# Altium integrated library Panasonic Relays PhotoMOS.IntLib: 50 symbols (part 1 of 2)
Pins are listed as number, name and electrical type; pins without a type are passive.

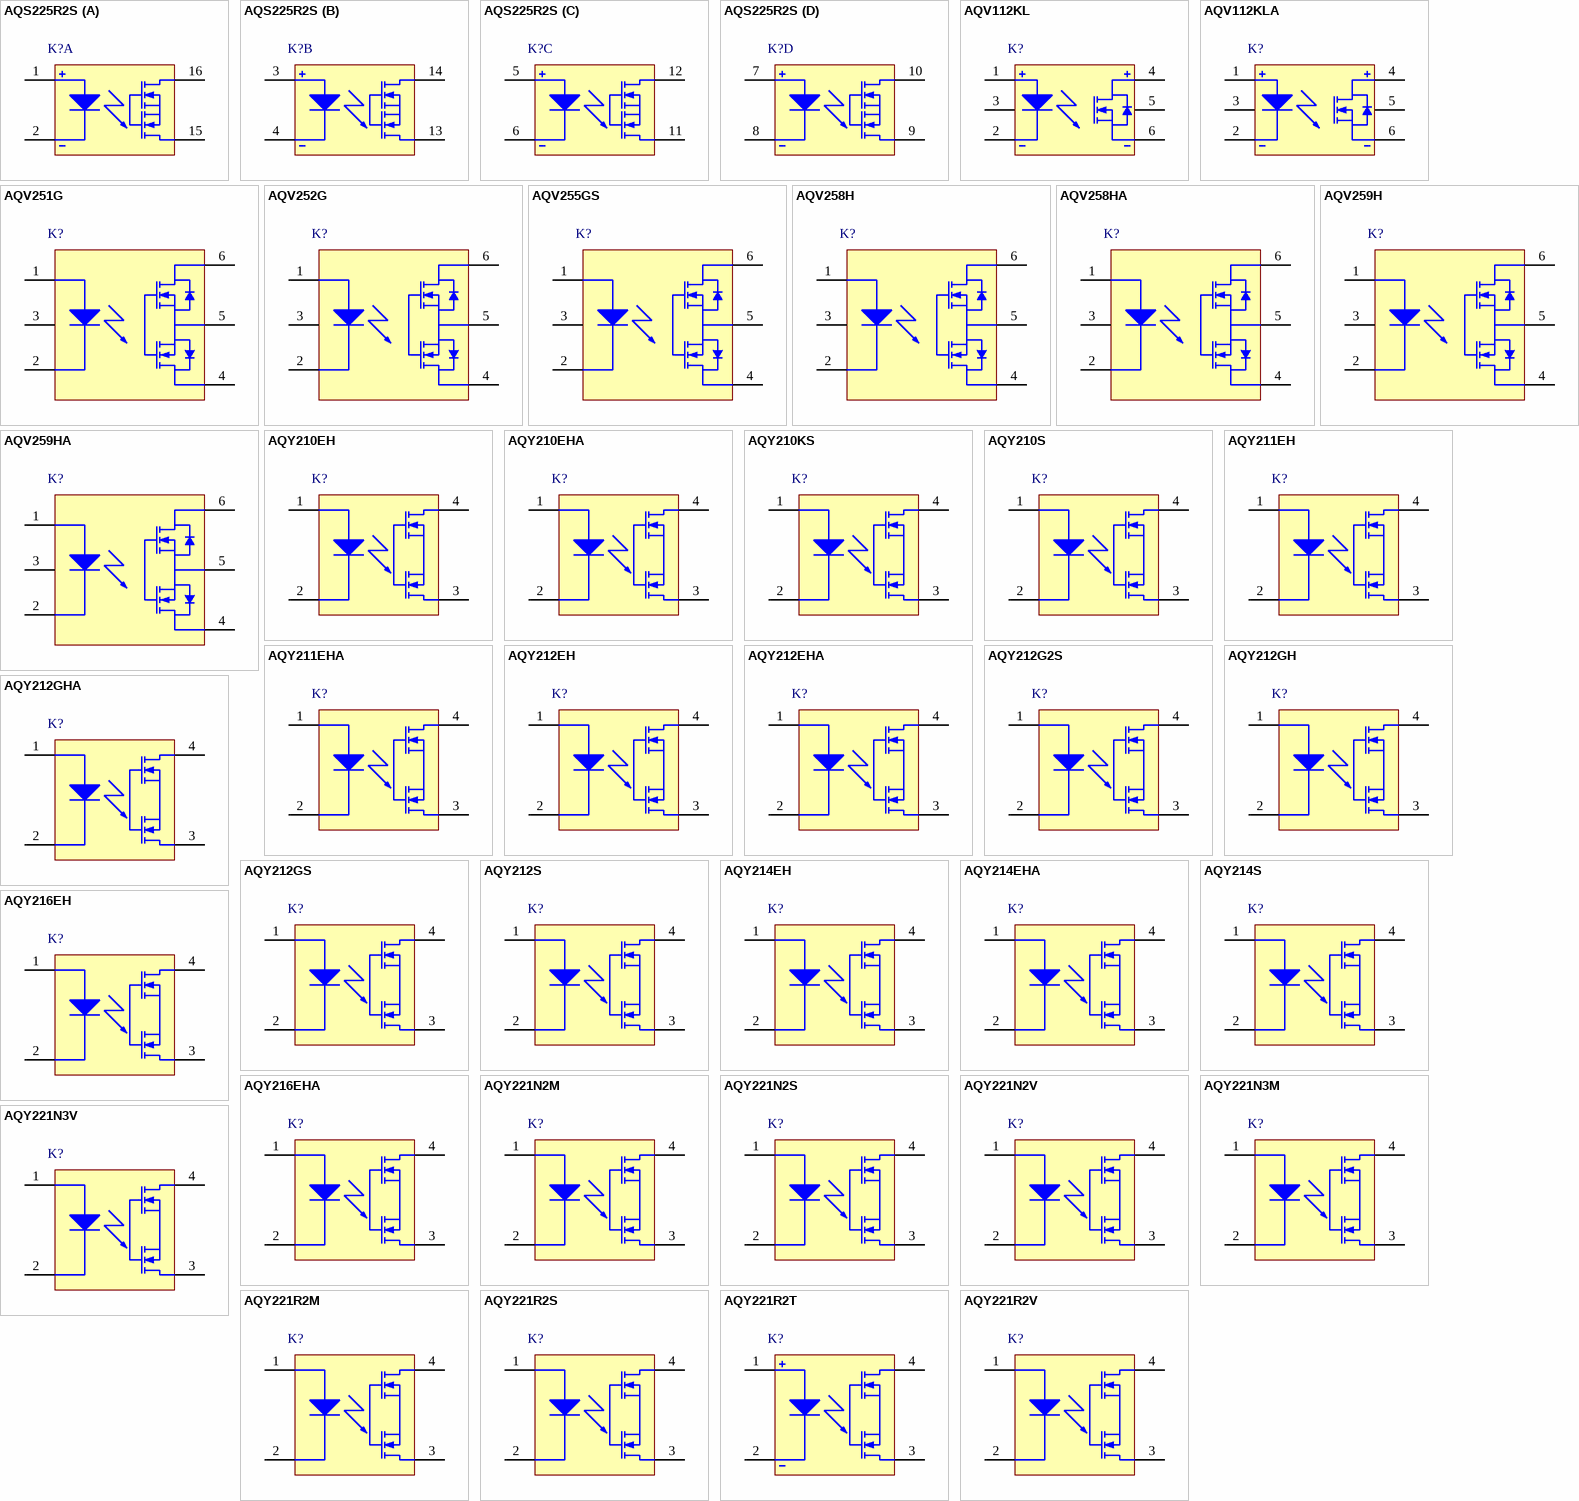
[diagram p0: symbols AQS225R2S to AQY221R2V]

## AQS225R2S
designator K?
PhotoMOS RF SOP 4 Form A CxR, 80 V Load Voltage, 0.07 A Continuous Load Current, -40 to 85 degC, 16-Pin SOP, Tube, RoHS; Manufacturer: Panasonic; PartNumber: AQS225R2S; Continuous Load Current: 0.07 A; Load Voltage: 80 V; On Resistance (Typ): 10.5 Ohm; Pb-Free: True; DatasheetVersion: 201404-T; PackageVersion: ASCTB67E, 04/2014; PackageReference: SOP16; PackageDescription: 16-Pin Small Outline Package, Body 10.37 x 4.4 mm, Pitch 1.27 mm; Supplier 1: Mouser; Supplier Part Number 1: 769-AQS225R2S; Supplier 2: Digi-Key; Supplier Part Number 2: 255-2668-ND; Packing: Tube; RoHS: True; Series: PhotoMOS RF SOP 4 Form A CxR; Mounting Technology: Surface Mount; ComponentLink1Description: Manufacturer URL; ComponentLink1URL: http://www3.panasonic.biz/ac/ae/index.jsp; ComponentLink2Description: Datasheet; ComponentLink2URL: http://www3.panasonic.biz/ac/e_download/control/relay/photomos/catalog/semi_eng_rf4a_aqs22_s.pdf?f_cd=301562; ComponentLink3Description: Package Specification; ComponentLink3URL: http://www3.panasonic.biz/ac/e_download/control/relay/photomos/catalog/semi_eng_dimensions.pdf?f_cd=401560
footprint PNSC-SOP16_V (SOP, 16-Leads, Body 10.37x4.4mm, Pitch 1.27mm)
part A pins: 1 +, 2 -, 15, 16
part B pins: 3 +, 4 -, 13, 14
part C pins: 5 +, 6 -, 11, 12
part D pins: 7 +, 8 -, 9, 10

## AQV112KL
designator K?
PhotoMOS GU 1 Form A Short Circuit Protection, 60 V Load Voltage, 0.5 A Continuous Load Current, -40 to 85 degC, 6-Pin DIP, Tube, RoHS; Manufacturer: Panasonic; PartNumber: AQV112KL; Continuous Load Current: 0.5 A; Load Voltage: 60 V; On Resistance (Typ): 0.55 Ohm; Pb-Free: True; DatasheetVersion: 201404-T; PackageVersion: ASCTB67E, 04/2014; PackageReference: DIP6; PackageDescription: 6-Pin Through Hole Terminal Package, Body 8.8 x 6.4 mm, Pitch 2.54 mm; Supplier 1: Mouser; Supplier Part Number 1: 769-AQV112KL; Supplier 2: Digi-Key; Supplier Part Number 2: AQV112KL-ND; Packing: Tube; RoHS: True; Series: PhotoMOS GU 1 Form A Short Circuit Protection; Mounting Technology: Through Hole; ComponentLink1Description: Manufacturer URL; ComponentLink1URL: http://www3.panasonic.biz/ac/ae/index.jsp; ComponentLink2Description: Datasheet; ComponentLink2URL: http://www3.panasonic.biz/ac/e_download/control/relay/photomos/catalog/semi_eng_gu1a_aqv11_kl.pdf?f_cd=301052; ComponentLink3Description: Package Specification; ComponentLink3URL: http://www3.panasonic.biz/ac/e_download/control/relay/photomos/catalog/semi_eng_dimensions.pdf?f_cd=401560
footprint PNSC-DIP6_V (DIP, 6-Leads, Body 6.45x8.85 mm, Pitch2.54 mm)
pins: 1 +, 2 -, 3, 4 +, 5, 6 -

## AQV112KLA
designator K?
PhotoMOS GU 1 Form A Short Circuit Protection, 60 V Load Voltage, 0.5 A Continuous Load Current, -40 to 85 degC, 6-Pin DIP(SMT), Tube, RoHS; Manufacturer: Panasonic; PartNumber: AQV112KLA; Continuous Load Current: 0.5 A; Load Voltage: 60 V; On Resistance (Typ): 0.55 Ohm; Pb-Free: True; DatasheetVersion: 201404-T; PackageVersion: ASCTB67E, 04/2014; PackageReference: DIP6(SMT); PackageDescription: 6-Pin Surface Mount Terminal Package, Body 8.8 x 6.4 mm, Pitch 2.54 mm; Supplier 1: Mouser; Supplier Part Number 1: 769-AQV112KLA; Supplier 2: Digi-Key; Supplier Part Number 2: AQV112KLA-ND; Packing: Tube; RoHS: True; Series: PhotoMOS GU 1 Form A Short Circuit Protection; Mounting Technology: Surface Mount; ComponentLink1Description: Manufacturer URL; ComponentLink1URL: http://www3.panasonic.biz/ac/ae/index.jsp; ComponentLink2Description: Datasheet; ComponentLink2URL: http://www3.panasonic.biz/ac/e_download/control/relay/photomos/catalog/semi_eng_gu1a_aqv11_kl.pdf?f_cd=301052; ComponentLink3Description: Package Specification; ComponentLink3URL: http://www3.panasonic.biz/ac/e_download/control/relay/photomos/catalog/semi_eng_dimensions.pdf?f_cd=401560
footprint PNSC-DIP6(SMT)_V (DIP(SMT), 6-Leads, Body 8.8x6.4mm, Pitch 2.54mm)
pins: 1 +, 2 -, 3, 4 +, 5, 6 -

## AQV251G
designator K?
PhotoMOS HE 1 Form A High Capacity, 30 V Load Voltage, 3.5 A Continuous Load Current, -40 to 85 degC, 6-Pin DIP, Tube, RoHS; Manufacturer: Panasonic; PartNumber: AQV251G; Continuous Load Current: 3.5 A; Load Voltage: 30 V; On Resistance (Typ): 0.035 Ohm; Pb-Free: True; DatasheetVersion: 201404-T; PackageVersion: ASCTB67E, 04/2014; PackageReference: DIP6; PackageDescription: 6-Pin Through Hole Terminal Package, Body 8.8 x 6.4 mm, Pitch 2.54 mm; Supplier 1: Digi-Key; Supplier Part Number 1: 255-4244-5-ND; Packing: Tube; RoHS: True; Series: PhotoMOS HE 1 Form A High Capacity; Mounting Technology: Through Hole; ComponentLink1Description: Manufacturer URL; ComponentLink1URL: http://www3.panasonic.biz/ac/ae/index.jsp; ComponentLink2Description: Datasheet; ComponentLink2URL: http://www3.panasonic.biz/ac/e_download/control/relay/photomos/catalog/semi_eng_he1a_aqv25_g.pdf?f_cd=301252; ComponentLink3Description: Package Specification; ComponentLink3URL: http://www3.panasonic.biz/ac/e_download/control/relay/photomos/catalog/semi_eng_dimensions.pdf?f_cd=401560
footprint PNSC-DIP6_V (DIP, 6-Leads, Body 6.45x8.85 mm, Pitch2.54 mm)
pins: 1, 2, 3, 4, 5, 6

## AQV252G
designator K?
PhotoMOS HE 1 Form A High Capacity, 60 V Load Voltage, 2.5 A Continuous Load Current, -40 to 85 degC, 6-Pin DIP, Tube, RoHS; Manufacturer: Panasonic; PartNumber: AQV252G; Continuous Load Current: 2.5 A; Load Voltage: 60 V; On Resistance (Typ): 0.08 Ohm; Pb-Free: True; DatasheetVersion: 201404-T; PackageVersion: ASCTB67E, 04/2014; PackageReference: DIP6; PackageDescription: 6-Pin Through Hole Terminal Package, Body 8.8 x 6.4 mm, Pitch 2.54 mm; Supplier 1: Mouser; Supplier Part Number 1: 769-AQV252G; Supplier 2: Digi-Key; Supplier Part Number 2: 255-1791-5-ND; Packing: Tube; RoHS: True; Series: PhotoMOS HE 1 Form A High Capacity; Mounting Technology: Through Hole; ComponentLink1Description: Manufacturer URL; ComponentLink1URL: http://www3.panasonic.biz/ac/ae/index.jsp; ComponentLink2Description: Datasheet; ComponentLink2URL: http://www3.panasonic.biz/ac/e_download/control/relay/photomos/catalog/semi_eng_he1a_aqv25_g.pdf?f_cd=301252; ComponentLink3Description: Package Specification; ComponentLink3URL: http://www3.panasonic.biz/ac/e_download/control/relay/photomos/catalog/semi_eng_dimensions.pdf?f_cd=401560
footprint PNSC-DIP6_V (DIP, 6-Leads, Body 6.45x8.85 mm, Pitch2.54 mm)
pins: 1, 2, 3, 4, 5, 6

## AQV255GS
designator K?
PhotoMOS HE SOP 1 Form A High Capacity, 80 V Load Voltage, 1.25 A Continuous Load Current, -40 to 85 degC, 6-Pin SOP, Tube, RoHS; Manufacturer: Panasonic; PartNumber: AQV255GS; Continuous Load Current: 1.25 A; Load Voltage: 80 V; On Resistance (Typ): 0.09 Ohm; Pb-Free: True; DatasheetVersion: 201404-T; PackageVersion: ASCTB67E, 04/2014; PackageReference: SOP6; PackageDescription: 6-Pin Small Outline Package, Body 6.3 x 4.4 mm, Pitch 2.54 mm; Supplier 1: Mouser; Supplier Part Number 1: 769-AQV255GS; Supplier 2: Digi-Key; Supplier Part Number 2: AQV255GS-ND; Packing: Tube; RoHS: True; Series: PhotoMOS HE SOP 1 Form A High Capacity; Mounting Technology: Surface Mount; ComponentLink1Description: Manufacturer URL; ComponentLink1URL: http://www3.panasonic.biz/ac/ae/index.jsp; ComponentLink2Description: Datasheet; ComponentLink2URL: http://www3.panasonic.biz/ac/e_download/control/relay/photomos/catalog/semi_eng_he1a_aqv25_gs.pdf?f_cd=301262; ComponentLink3Description: Package Specification; ComponentLink3URL: http://www3.panasonic.biz/ac/e_download/control/relay/photomos/catalog/semi_eng_dimensions.pdf?f_cd=401560
footprint PNSC-SOP6_V (SOP, 6-Leads, Body 6.3x4.4mm, Pitch 2.54mm)
pins: 1, 2, 3, 4, 5, 6

## AQV258H
designator K?
PhotoMOS HE 1 Form A, 1500 V Load Voltage, 0.02 A Continuous Load Current, -40 to 85 degC, 6-Pin DIP, RoHS; Manufacturer: Panasonic; PartNumber: AQV258H; Continuous Load Current: 0.02 A; Load Voltage: 1500 V; On Resistance (Typ): 345 Ohm; Pb-Free: True; DatasheetVersion: 201406-T; PackageVersion: ASCTB67E, 04/2014; PackageReference: DIP6; PackageDescription: 6-Pin Through Hole Terminal Package, Body 8.8 x 6.4 mm, Pitch 2.54 mm; RoHS: True; Series: PhotoMOS HE 1 Form A; Mounting Technology: Through Hole; ComponentLink1Description: Manufacturer URL; ComponentLink1URL: http://www3.panasonic.biz/ac/ae/index.jsp; ComponentLink2Description: Datasheet; ComponentLink2URL: http://www3.panasonic.biz/ac/e_download/control/relay/photomos/catalog/semi_eng_he1a_aqv25.pdf; ComponentLink3Description: Package Specification; ComponentLink3URL: http://www3.panasonic.biz/ac/e_download/control/relay/photomos/catalog/semi_eng_dimensions.pdf?f_cd=401560
footprint PNSC-DIP6_V (DIP, 6-Leads, Body 6.45x8.85 mm, Pitch2.54 mm)
pins: 1, 2, 3, 4, 5, 6

## AQV258HA
designator K?
PhotoMOS HE 1 Form A, 1500 V Load Voltage, 0.02 A Continuous Load Current, -40 to 85 degC, 6-Pin DIP(SMT), RoHS; Manufacturer: Panasonic; PartNumber: AQV258HA; Continuous Load Current: 0.02 A; Load Voltage: 1500 V; On Resistance (Typ): 345 Ohm; Pb-Free: True; DatasheetVersion: 201406-T; PackageVersion: ASCTB67E, 04/2014; PackageReference: DIP6(SMT); PackageDescription: 6-Pin Surface Mount Terminal Package, Body 8.8 x 6.4 mm, Pitch 2.54 mm; RoHS: True; Series: PhotoMOS HE 1 Form A; Mounting Technology: Surface Mount; ComponentLink1Description: Manufacturer URL; ComponentLink1URL: http://www3.panasonic.biz/ac/ae/index.jsp; ComponentLink2Description: Datasheet; ComponentLink2URL: http://www3.panasonic.biz/ac/e_download/control/relay/photomos/catalog/semi_eng_he1a_aqv25.pdf; ComponentLink3Description: Package Specification; ComponentLink3URL: http://www3.panasonic.biz/ac/e_download/control/relay/photomos/catalog/semi_eng_dimensions.pdf?f_cd=401560
footprint PNSC-DIP6(SMT)_V (DIP(SMT), 6-Leads, Body 8.8x6.4mm, Pitch 2.54mm)
pins: 1, 2, 3, 4, 5, 6

## AQV259H
designator K?
PhotoMOS HE 1 Form A, 1000 V Load Voltage, 0.03 A Continuous Load Current, -40 to 85 degC, 6-Pin DIP, Tube, RoHS; Manufacturer: Panasonic; PartNumber: AQV259H; Continuous Load Current: 0.03 A; Load Voltage: 1000 V; On Resistance (Typ): 85 Ohm; Pb-Free: True; DatasheetVersion: 201406-T; PackageVersion: ASCTB67E, 04/2014; PackageReference: DIP6; PackageDescription: 6-Pin Through Hole Terminal Package, Body 8.8 x 6.4 mm, Pitch 2.54 mm; Supplier 1: Mouser; Supplier Part Number 1: 769-AQV259H; Supplier 2: Digi-Key; Supplier Part Number 2: 255-4075-5-ND; Packing: Tube; RoHS: True; Series: PhotoMOS HE 1 Form A; Mounting Technology: Through Hole; ComponentLink1Description: Manufacturer URL; ComponentLink1URL: http://www3.panasonic.biz/ac/ae/index.jsp; ComponentLink2Description: Datasheet; ComponentLink2URL: http://www3.panasonic.biz/ac/e_download/control/relay/photomos/catalog/semi_eng_he1a_aqv25.pdf; ComponentLink3Description: Package Specification; ComponentLink3URL: http://www3.panasonic.biz/ac/e_download/control/relay/photomos/catalog/semi_eng_dimensions.pdf?f_cd=401560
footprint PNSC-DIP6_V (DIP, 6-Leads, Body 6.45x8.85 mm, Pitch2.54 mm)
pins: 1, 2, 3, 4, 5, 6

## AQV259HA
designator K?
PhotoMOS HE 1 Form A, 1000 V Load Voltage, 0.03 A Continuous Load Current, -40 to 85 degC, 6-Pin DIP(SMT), Tube, RoHS; Manufacturer: Panasonic; PartNumber: AQV259HA; Continuous Load Current: 0.03 A; Load Voltage: 1000 V; On Resistance (Typ): 85 Ohm; Pb-Free: True; DatasheetVersion: 201406-T; PackageVersion: ASCTB67E, 04/2014; PackageReference: DIP6(SMT); PackageDescription: 6-Pin Surface Mount Terminal Package, Body 8.8 x 6.4 mm, Pitch 2.54 mm; Supplier 1: Mouser; Supplier Part Number 1: 769-AQV259HA; Supplier 2: Digi-Key; Supplier Part Number 2: 255-1961-ND; Packing: Tube; RoHS: True; Series: PhotoMOS HE 1 Form A; Mounting Technology: Surface Mount; ComponentLink1Description: Manufacturer URL; ComponentLink1URL: http://www3.panasonic.biz/ac/ae/index.jsp; ComponentLink2Description: Datasheet; ComponentLink2URL: http://www3.panasonic.biz/ac/e_download/control/relay/photomos/catalog/semi_eng_he1a_aqv25.pdf; ComponentLink3Description: Package Specification; ComponentLink3URL: http://www3.panasonic.biz/ac/e_download/control/relay/photomos/catalog/semi_eng_dimensions.pdf?f_cd=401560
footprint PNSC-DIP6(SMT)_V (DIP(SMT), 6-Leads, Body 8.8x6.4mm, Pitch 2.54mm)
pins: 1, 2, 3, 4, 5, 6

## AQY210EH
designator K?
PhotoMOS GE 1 Form A, 350 V Load Voltage, 0.13 A Continuous Load Current, -40 to 85 degC, 4-Pin DIP, Tube, RoHS; Manufacturer: Panasonic; PartNumber: AQY210EH; Continuous Load Current: 0.13 A; Load Voltage: 350 V; On Resistance (Typ): 18 Ohm; Pb-Free: True; DatasheetVersion: 201404-T; PackageVersion: ASCTB67E, 04/2014; PackageReference: DIP4; PackageDescription: 4-Pin Through Hole Terminal Package, Body 4.78 x 6.4 mm, Pitch 2.54 mm; Supplier 1: Mouser; Supplier Part Number 1: 769-AQY210EH; Supplier 2: Digi-Key; Supplier Part Number 2: 255-1430-5-ND; Packing: Tube; RoHS: True; Series: PhotoMOS GE 1 Form A; Mounting Technology: Through Hole; ComponentLink1Description: Manufacturer URL; ComponentLink1URL: http://www3.panasonic.biz/ac/ae/index.jsp; ComponentLink2Description: Datasheet; ComponentLink2URL: http://www3.panasonic.biz/ac/e_download/control/relay/photomos/catalog/semi_eng_ge1a_aqy21_e.pdf; ComponentLink3Description: Package Specification; ComponentLink3URL: http://www3.panasonic.biz/ac/e_download/control/relay/photomos/catalog/semi_eng_dimensions.pdf?f_cd=401560
footprint PNSC-DIP4_V (DIP, 4-Leads, Body 6.45x4.83mm, Pitch2.54 mm)
pins: 1, 2, 3, 4

## AQY210EHA
designator K?
PhotoMOS GE 1 Form A, 350 V Load Voltage, 0.13 A Continuous Load Current, -40 to 85 degC, 4-Pin DIP(SMT), Tube, RoHS; Manufacturer: Panasonic; PartNumber: AQY210EHA; Continuous Load Current: 0.13 A; Load Voltage: 350 V; On Resistance (Typ): 18 Ohm; Pb-Free: True; DatasheetVersion: 201404-T; PackageVersion: ASCTB67E, 04/2014; PackageReference: DIP4(SMT); PackageDescription: 4-Pin Surface Mount Terminal Package, Body 4.78 x 6.4 mm, Pitch 2.54mm; Supplier 1: Mouser; Supplier Part Number 1: 769-AQY210EHA; Supplier 2: Digi-Key; Supplier Part Number 2: 255-1431-5-ND; Packing: Tube; RoHS: True; Series: PhotoMOS GE 1 Form A; Mounting Technology: Surface Mount; ComponentLink1Description: Manufacturer URL; ComponentLink1URL: http://www3.panasonic.biz/ac/ae/index.jsp; ComponentLink2Description: Datasheet; ComponentLink2URL: http://www3.panasonic.biz/ac/e_download/control/relay/photomos/catalog/semi_eng_ge1a_aqy21_e.pdf; ComponentLink3Description: Package Specification; ComponentLink3URL: http://www3.panasonic.biz/ac/e_download/control/relay/photomos/catalog/semi_eng_dimensions.pdf?f_cd=401560
footprint PNSC-DIP4(SMT)_V (DIP(SMT), 4-Leads, Body 6.4x4.78mm, Pitch 2.54mm)
pins: 1, 2, 3, 4

## AQY210KS
designator K?
PhotoMOS GU SOP 1 Form A Short Circuit Protection, 350 V Load Voltage, 0.12 A Continuous Load Current, -40 to 85 degC, 4-Pin SOP, Tube, RoHS; Manufacturer: Panasonic; PartNumber: AQY210KS; Continuous Load Current: 0.12 A; Load Voltage: 350 V; On Resistance (Typ): 23.5 Ohm; Pb-Free: True; DatasheetVersion: 201404-T; PackageVersion: ASCTB67E, 04/2014; PackageReference: SOP4; PackageDescription: 4-Pin Small Outline Package, Body 4.4 x 4.3 mm, Pitch 2.54 mm; Supplier 1: Mouser; Supplier Part Number 1: 769-AQY210KS; Supplier 2: Digi-Key; Supplier Part Number 2: 255-1432-5-ND; Packing: Tube; RoHS: True; Series: PhotoMOS GU SOP 1 Form A Short Circuit Protection; Mounting Technology: Surface Mount; ComponentLink1Description: Manufacturer URL; ComponentLink1URL: http://www3.panasonic.biz/ac/ae/index.jsp; ComponentLink2Description: Datasheet; ComponentLink2URL: http://www3.panasonic.biz/ac/e_download/control/relay/photomos/catalog/semi_eng_gu1a_aqy21_ks.pdf?f_cd=301122; ComponentLink3Description: Package Specification; ComponentLink3URL: http://www3.panasonic.biz/ac/e_download/control/relay/photomos/catalog/semi_eng_dimensions.pdf?f_cd=401560
footprint PNSC-SOP4_V (SOP, 4-Leads, Body 4.4x4.3mm, Pitch 2.54mm)
pins: 1, 2, 3, 4

## AQY210S
designator K?
PhotoMOS GU SOP 1 Form A, 350 V Load Voltage, 0.12 A Continuous Load Current, -40 to 85 degC, 4-Pin SOP, Tube, RoHS; Manufacturer: Panasonic; PartNumber: AQY210S; Continuous Load Current: 0.12 A; Load Voltage: 350 V; On Resistance (Typ): 17 Ohm; Pb-Free: True; DatasheetVersion: 201404-T; PackageVersion: ASCTB67E, 04/2014; PackageReference: SOP4; PackageDescription: 4-Pin Small Outline Package, Body 4.4 x 4.3 mm, Pitch 2.54 mm; Supplier 1: Mouser; Supplier Part Number 1: 769-AQY210S; Supplier 2: Digi-Key; Supplier Part Number 2: 255-1434-5-ND; Packing: Tube; RoHS: True; Series: PhotoMOS GU SOP 1 Form A; Mounting Technology: Surface Mount; ComponentLink1Description: Manufacturer URL; ComponentLink1URL: http://www3.panasonic.biz/ac/ae/index.jsp; ComponentLink2Description: Datasheet; ComponentLink2URL: http://www3.panasonic.biz/ac/e_download/control/relay/photomos/catalog/semi_eng_gu1a_aqy21_s.pdf?f_cd=301142; ComponentLink3Description: Package Specification; ComponentLink3URL: http://www3.panasonic.biz/ac/e_download/control/relay/photomos/catalog/semi_eng_dimensions.pdf?f_cd=401560
footprint PNSC-SOP4_V (SOP, 4-Leads, Body 4.4x4.3mm, Pitch 2.54mm)
pins: 1, 2, 3, 4

## AQY211EH
designator K?
PhotoMOS GE 1 Form A, 30 V Load Voltage, 1 A Continuous Load Current, -40 to 85 degC, 4-Pin DIP, Tube, RoHS; Manufacturer: Panasonic; PartNumber: AQY211EH; Continuous Load Current: 1 A; Load Voltage: 30 V; On Resistance (Typ): 0.25 Ohm; Pb-Free: True; DatasheetVersion: 201404-T; PackageVersion: ASCTB67E, 04/2014; PackageReference: DIP4; PackageDescription: 4-Pin Through Hole Terminal Package, Body 4.78 x 6.4 mm, Pitch 2.54 mm; Supplier 1: Mouser; Supplier Part Number 1: 769-AQY211EH; Supplier 2: Digi-Key; Supplier Part Number 2: 255-4190-5-ND; Packing: Tube; RoHS: True; Series: PhotoMOS GE 1 Form A; Mounting Technology: Through Hole; ComponentLink1Description: Manufacturer URL; ComponentLink1URL: http://www3.panasonic.biz/ac/ae/index.jsp; ComponentLink2Description: Datasheet; ComponentLink2URL: http://www3.panasonic.biz/ac/e_download/control/relay/photomos/catalog/semi_eng_ge1a_aqy21_e.pdf; ComponentLink3Description: Package Specification; ComponentLink3URL: http://www3.panasonic.biz/ac/e_download/control/relay/photomos/catalog/semi_eng_dimensions.pdf?f_cd=401560
footprint PNSC-DIP4_V (DIP, 4-Leads, Body 6.45x4.83mm, Pitch2.54 mm)
pins: 1, 2, 3, 4

## AQY211EHA
designator K?
PhotoMOS GE 1 Form A, 30 V Load Voltage, 1 A Continuous Load Current, -40 to 85 degC, 4-Pin DIP(SMT), Tube, RoHS; Manufacturer: Panasonic; PartNumber: AQY211EHA; Continuous Load Current: 1 A; Load Voltage: 30 V; On Resistance (Typ): 0.25 Ohm; Pb-Free: True; DatasheetVersion: 201404-T; PackageVersion: ASCTB67E, 04/2014; PackageReference: DIP4(SMT); PackageDescription: 4-Pin Surface Mount Terminal Package, Body 4.78 x 6.4 mm, Pitch 2.54mm; Supplier 1: Mouser; Supplier Part Number 1: 769-AQY211EHA; Supplier 2: Digi-Key; Supplier Part Number 2: 255-4069-5-ND; Packing: Tube; RoHS: True; Series: PhotoMOS GE 1 Form A; Mounting Technology: Surface Mount; ComponentLink1Description: Manufacturer URL; ComponentLink1URL: http://www3.panasonic.biz/ac/ae/index.jsp; ComponentLink2Description: Datasheet; ComponentLink2URL: http://www3.panasonic.biz/ac/e_download/control/relay/photomos/catalog/semi_eng_ge1a_aqy21_e.pdf; ComponentLink3Description: Package Specification; ComponentLink3URL: http://www3.panasonic.biz/ac/e_download/control/relay/photomos/catalog/semi_eng_dimensions.pdf?f_cd=401560
footprint PNSC-DIP4(SMT)_V (DIP(SMT), 4-Leads, Body 6.4x4.78mm, Pitch 2.54mm)
pins: 1, 2, 3, 4

## AQY212EH
designator K?
PhotoMOS GE 1 Form A, 60 V Load Voltage, 0.55 A Continuous Load Current, -40 to 85 degC, 4-Pin DIP, Tube, RoHS; Manufacturer: Panasonic; PartNumber: AQY212EH; Continuous Load Current: 0.55 A; Load Voltage: 60 V; On Resistance (Typ): 0.85 Ohm; Pb-Free: True; DatasheetVersion: 201404-T; PackageVersion: ASCTB67E, 04/2014; PackageReference: DIP4; PackageDescription: 4-Pin Through Hole Terminal Package, Body 4.78 x 6.4 mm, Pitch 2.54 mm; Supplier 1: Mouser; Supplier Part Number 1: 769-AQY212EH; Supplier 2: Digi-Key; Supplier Part Number 2: 255-2963-ND; Packing: Tube; RoHS: True; Series: PhotoMOS GE 1 Form A; Mounting Technology: Through Hole; ComponentLink1Description: Manufacturer URL; ComponentLink1URL: http://www3.panasonic.biz/ac/ae/index.jsp; ComponentLink2Description: Datasheet; ComponentLink2URL: http://www3.panasonic.biz/ac/e_download/control/relay/photomos/catalog/semi_eng_ge1a_aqy21_e.pdf; ComponentLink3Description: Package Specification; ComponentLink3URL: http://www3.panasonic.biz/ac/e_download/control/relay/photomos/catalog/semi_eng_dimensions.pdf?f_cd=401560
footprint PNSC-DIP4_V (DIP, 4-Leads, Body 6.45x4.83mm, Pitch2.54 mm)
pins: 1, 2, 3, 4

## AQY212EHA
designator K?
PhotoMOS GE 1 Form A, 60 V Load Voltage, 0.55 A Continuous Load Current, -40 to 85 degC, 4-Pin DIP(SMT), Tube, RoHS; Manufacturer: Panasonic; PartNumber: AQY212EHA; Continuous Load Current: 0.55 A; Load Voltage: 60 V; On Resistance (Typ): 0.85 Ohm; Pb-Free: True; DatasheetVersion: 201404-T; PackageVersion: ASCTB67E, 04/2014; PackageReference: DIP4(SMT); PackageDescription: 4-Pin Surface Mount Terminal Package, Body 4.78 x 6.4 mm, Pitch 2.54mm; Supplier 1: Mouser; Supplier Part Number 1: 769-AQY212EHA; Supplier 2: Digi-Key; Supplier Part Number 2: 255-3389-ND; Packing: Tube; RoHS: True; Series: PhotoMOS GE 1 Form A; Mounting Technology: Surface Mount; ComponentLink1Description: Manufacturer URL; ComponentLink1URL: http://www3.panasonic.biz/ac/ae/index.jsp; ComponentLink2Description: Datasheet; ComponentLink2URL: http://www3.panasonic.biz/ac/e_download/control/relay/photomos/catalog/semi_eng_ge1a_aqy21_e.pdf; ComponentLink3Description: Package Specification; ComponentLink3URL: http://www3.panasonic.biz/ac/e_download/control/relay/photomos/catalog/semi_eng_dimensions.pdf?f_cd=401560
footprint PNSC-DIP4(SMT)_V (DIP(SMT), 4-Leads, Body 6.4x4.78mm, Pitch 2.54mm)
pins: 1, 2, 3, 4

## AQY212G2S
designator K?
PhotoMOS GU SOP 1 Form A High Capacity, 60 V Load Voltage, 1.25 A Continuous Load Current, -40 to 85 degC, 4-Pin SOP, Tube, RoHS; Manufacturer: Panasonic; PartNumber: AQY212G2S; Continuous Load Current: 1.25 A; Load Voltage: 60 V; On Resistance (Typ): 0.2 Ohm; Pb-Free: True; DatasheetVersion: 201404-T; PackageVersion: ASCTB67E, 04/2014; PackageReference: SOP4; PackageDescription: 4-Pin Small Outline Package, Body 4.4 x 4.3 mm, Pitch 2.54 mm; Supplier 1: Mouser; Supplier Part Number 1: 769-AQY212G2S; Supplier 2: Digi-Key; Supplier Part Number 2: AQY212G2S-ND; Packing: Tube; RoHS: True; Series: PhotoMOS GU SOP 1 Form A High Capacity; Mounting Technology: Surface Mount; ComponentLink1Description: Manufacturer URL; ComponentLink1URL: http://www3.panasonic.biz/ac/ae/index.jsp; ComponentLink2Description: Datasheet; ComponentLink2URL: http://www3.panasonic.biz/ac/e_download/control/relay/photomos/catalog/semi_eng_gu1a_aqy21_gs.pdf?f_cd=301102; ComponentLink3Description: Package Specification; ComponentLink3URL: http://www3.panasonic.biz/ac/e_download/control/relay/photomos/catalog/semi_eng_dimensions.pdf?f_cd=401560
footprint PNSC-SOP4_V (SOP, 4-Leads, Body 4.4x4.3mm, Pitch 2.54mm)
pins: 1, 2, 3, 4

## AQY212GH
designator K?
PhotoMOS GU 1 Form A, 60 V Load Voltage, 1.1 A Continuous Load Current, -40 to 85 degC, 4-Pin DIP, Tube, RoHS; Manufacturer: Panasonic; PartNumber: AQY212GH; Continuous Load Current: 1.1 A; Load Voltage: 60 V; On Resistance (Typ): 0.34 Ohm; Pb-Free: True; DatasheetVersion: 201404-T; PackageVersion: ASCTB67E, 04/2014; PackageReference: DIP4; PackageDescription: 4-Pin Through Hole Terminal Package, Body 4.78 x 6.4 mm, Pitch 2.54 mm; Supplier 1: Mouser; Supplier Part Number 1: 769-AQY212GH; Supplier 2: Digi-Key; Supplier Part Number 2: 255-2680-ND; Packing: Tube; RoHS: True; Series: PhotoMOS GU 1 Form A; Mounting Technology: Through Hole; ComponentLink1Description: Manufacturer URL; ComponentLink1URL: http://www3.panasonic.biz/ac/ae/index.jsp; ComponentLink2Description: Datasheet; ComponentLink2URL: http://www3.panasonic.biz/ac/e_download/control/relay/photomos/catalog/semi_eng_gu1a_aqy21_g.pdf; ComponentLink3Description: Package Specification; ComponentLink3URL: http://www3.panasonic.biz/ac/e_download/control/relay/photomos/catalog/semi_eng_dimensions.pdf?f_cd=401560
footprint PNSC-DIP4_V (DIP, 4-Leads, Body 6.45x4.83mm, Pitch2.54 mm)
pins: 1, 2, 3, 4

## AQY212GHA
designator K?
PhotoMOS GU 1 Form A, 60 V Load Voltage, 1.1 A Continuous Load Current, -40 to 85 degC, 4-Pin DIP(SMT), Tube, RoHS; Manufacturer: Panasonic; PartNumber: AQY212GHA; Continuous Load Current: 1.1 A; Load Voltage: 60 V; On Resistance (Typ): 0.34 Ohm; Pb-Free: True; DatasheetVersion: 201404-T; PackageVersion: ASCTB67E, 04/2014; PackageReference: DIP4(SMT); PackageDescription: 4-Pin Surface Mount Terminal Package, Body 4.78 x 6.4 mm, Pitch 2.54mm; Supplier 1: Mouser; Supplier Part Number 1: 769-AQY212GHA; Supplier 2: Digi-Key; Supplier Part Number 2: 255-2681-ND; Packing: Tube; RoHS: True; Series: PhotoMOS GU 1 Form A; Mounting Technology: Surface Mount; ComponentLink1Description: Manufacturer URL; ComponentLink1URL: http://www3.panasonic.biz/ac/ae/index.jsp; ComponentLink2Description: Datasheet; ComponentLink2URL: http://www3.panasonic.biz/ac/e_download/control/relay/photomos/catalog/semi_eng_gu1a_aqy21_g.pdf; ComponentLink3Description: Package Specification; ComponentLink3URL: http://www3.panasonic.biz/ac/e_download/control/relay/photomos/catalog/semi_eng_dimensions.pdf?f_cd=401560
footprint PNSC-DIP4(SMT)_V (DIP(SMT), 4-Leads, Body 6.4x4.78mm, Pitch 2.54mm)
pins: 1, 2, 3, 4

## AQY212GS
designator K?
PhotoMOS GU SOP 1 Form A High Capacity, 60 V Load Voltage, 1 A Continuous Load Current, -40 to 85 degC, 4-Pin SOP, Tube, RoHS; Manufacturer: Panasonic; PartNumber: AQY212GS; Continuous Load Current: 1 A; Load Voltage: 60 V; On Resistance (Typ): 0.34 Ohm; Pb-Free: True; DatasheetVersion: 201404-T; PackageVersion: ASCTB67E, 04/2014; PackageReference: SOP4; PackageDescription: 4-Pin Small Outline Package, Body 4.4 x 4.3 mm, Pitch 2.54 mm; Supplier 1: Mouser; Supplier Part Number 1: 769-AQY212GS; Supplier 2: Digi-Key; Supplier Part Number 2: 255-1792-5-ND; Packing: Tube; RoHS: True; Series: PhotoMOS GU SOP 1 Form A High Capacity; Mounting Technology: Surface Mount; ComponentLink1Description: Manufacturer URL; ComponentLink1URL: http://www3.panasonic.biz/ac/ae/index.jsp; ComponentLink2Description: Datasheet; ComponentLink2URL: http://www3.panasonic.biz/ac/e_download/control/relay/photomos/catalog/semi_eng_gu1a_aqy21_gs.pdf?f_cd=301102; ComponentLink3Description: Package Specification; ComponentLink3URL: http://www3.panasonic.biz/ac/e_download/control/relay/photomos/catalog/semi_eng_dimensions.pdf?f_cd=401560
footprint PNSC-SOP4_V (SOP, 4-Leads, Body 4.4x4.3mm, Pitch 2.54mm)
pins: 1, 2, 3, 4

## AQY212S
designator K?
PhotoMOS GU SOP 1 Form A, 60 V Load Voltage, 0.5 A Continuous Load Current, -40 to 85 degC, 4-Pin SOP, Tube, RoHS; Manufacturer: Panasonic; PartNumber: AQY212S; Continuous Load Current: 0.5 A; Load Voltage: 60 V; On Resistance (Typ): 0.83 Ohm; Pb-Free: True; DatasheetVersion: 201404-T; PackageVersion: ASCTB67E, 04/2014; PackageReference: SOP4; PackageDescription: 4-Pin Small Outline Package, Body 4.4 x 4.3 mm, Pitch 2.54 mm; Supplier 1: Mouser; Supplier Part Number 1: 769-AQY212S; Supplier 2: Digi-Key; Supplier Part Number 2: 255-1981-ND; Packing: Tube; RoHS: True; Series: PhotoMOS GU SOP 1 Form A; Mounting Technology: Surface Mount; ComponentLink1Description: Manufacturer URL; ComponentLink1URL: http://www3.panasonic.biz/ac/ae/index.jsp; ComponentLink2Description: Datasheet; ComponentLink2URL: http://www3.panasonic.biz/ac/e_download/control/relay/photomos/catalog/semi_eng_gu1a_aqy21_s.pdf?f_cd=301142; ComponentLink3Description: Package Specification; ComponentLink3URL: http://www3.panasonic.biz/ac/e_download/control/relay/photomos/catalog/semi_eng_dimensions.pdf?f_cd=401560
footprint PNSC-SOP4_V (SOP, 4-Leads, Body 4.4x4.3mm, Pitch 2.54mm)
pins: 1, 2, 3, 4

## AQY214EH
designator K?
PhotoMOS GE 1 Form A, 400 V Load Voltage, 0.12 A Continuous Load Current, -40 to 85 degC, 4-Pin DIP, Tube, RoHS; Manufacturer: Panasonic; PartNumber: AQY214EH; Continuous Load Current: 0.12 A; Load Voltage: 400 V; On Resistance (Typ): 26 Ohm; Pb-Free: True; DatasheetVersion: 201404-T; PackageVersion: ASCTB67E, 04/2014; PackageReference: DIP4; PackageDescription: 4-Pin Through Hole Terminal Package, Body 4.78 x 6.4 mm, Pitch 2.54 mm; Supplier 1: Mouser; Supplier Part Number 1: 769-AQY214EH; Supplier 2: Digi-Key; Supplier Part Number 2: 255-1435-5-ND; Packing: Tube; RoHS: True; Series: PhotoMOS GE 1 Form A; Mounting Technology: Through Hole; ComponentLink1Description: Manufacturer URL; ComponentLink1URL: http://www3.panasonic.biz/ac/ae/index.jsp; ComponentLink2Description: Datasheet; ComponentLink2URL: http://www3.panasonic.biz/ac/e_download/control/relay/photomos/catalog/semi_eng_ge1a_aqy21_e.pdf; ComponentLink3Description: Package Specification; ComponentLink3URL: http://www3.panasonic.biz/ac/e_download/control/relay/photomos/catalog/semi_eng_dimensions.pdf?f_cd=401560
footprint PNSC-DIP4_V (DIP, 4-Leads, Body 6.45x4.83mm, Pitch2.54 mm)
pins: 1, 2, 3, 4

## AQY214EHA
designator K?
PhotoMOS GE 1 Form A, 400 V Load Voltage, 0.12 A Continuous Load Current, -40 to 85 degC, 4-Pin DIP(SMT), Tube, RoHS; Manufacturer: Panasonic; PartNumber: AQY214EHA; Continuous Load Current: 0.12 A; Load Voltage: 400 V; On Resistance (Typ): 26 Ohm; Pb-Free: True; DatasheetVersion: 201404-T; PackageVersion: ASCTB67E, 04/2014; PackageReference: DIP4(SMT); PackageDescription: 4-Pin Surface Mount Terminal Package, Body 4.78 x 6.4 mm, Pitch 2.54mm; Supplier 1: Mouser; Supplier Part Number 1: 769-AQY214EHA; Supplier 2: Digi-Key; Supplier Part Number 2: 255-1436-5-ND; Packing: Tube; RoHS: True; Series: PhotoMOS GE 1 Form A; Mounting Technology: Surface Mount; ComponentLink1Description: Manufacturer URL; ComponentLink1URL: http://www3.panasonic.biz/ac/ae/index.jsp; ComponentLink2Description: Datasheet; ComponentLink2URL: http://www3.panasonic.biz/ac/e_download/control/relay/photomos/catalog/semi_eng_ge1a_aqy21_e.pdf; ComponentLink3Description: Package Specification; ComponentLink3URL: http://www3.panasonic.biz/ac/e_download/control/relay/photomos/catalog/semi_eng_dimensions.pdf?f_cd=401560
footprint PNSC-DIP4(SMT)_V (DIP(SMT), 4-Leads, Body 6.4x4.78mm, Pitch 2.54mm)
pins: 1, 2, 3, 4

## AQY214S
designator K?
PhotoMOS GU SOP 1 Form A, 400 V Load Voltage, 0.1 A Continuous Load Current, -40 to 85 degC, 4-Pin SOP, Tube, RoHS; Manufacturer: Panasonic; PartNumber: AQY214S; Continuous Load Current: 0.1 A; Load Voltage: 400 V; On Resistance (Typ): 25 Ohm; Pb-Free: True; DatasheetVersion: 201404-T; PackageVersion: ASCTB67E, 04/2014; PackageReference: SOP4; PackageDescription: 4-Pin Small Outline Package, Body 4.4 x 4.3 mm, Pitch 2.54 mm; Supplier 1: Mouser; Supplier Part Number 1: 769-AQY214S; Supplier 2: Digi-Key; Supplier Part Number 2: 255-1437-5-ND; Packing: Tube; RoHS: True; Series: PhotoMOS GU SOP 1 Form A; Mounting Technology: Surface Mount; ComponentLink1Description: Manufacturer URL; ComponentLink1URL: http://www3.panasonic.biz/ac/ae/index.jsp; ComponentLink2Description: Datasheet; ComponentLink2URL: http://www3.panasonic.biz/ac/e_download/control/relay/photomos/catalog/semi_eng_gu1a_aqy21_s.pdf?f_cd=301142; ComponentLink3Description: Package Specification; ComponentLink3URL: http://www3.panasonic.biz/ac/e_download/control/relay/photomos/catalog/semi_eng_dimensions.pdf?f_cd=401560
footprint PNSC-SOP4_V (SOP, 4-Leads, Body 4.4x4.3mm, Pitch 2.54mm)
pins: 1, 2, 3, 4

## AQY216EH
designator K?
PhotoMOS GE 1 Form A, 600 V Load Voltage, 0.05 A Continuous Load Current, -40 to 85 degC, 4-Pin DIP, Tube, RoHS; Manufacturer: Panasonic; PartNumber: AQY216EH; Continuous Load Current: 0.05 A; Load Voltage: 600 V; On Resistance (Typ): 52 Ohm; Pb-Free: True; DatasheetVersion: 201404-T; PackageVersion: ASCTB67E, 04/2014; PackageReference: DIP4; PackageDescription: 4-Pin Through Hole Terminal Package, Body 4.78 x 6.4 mm, Pitch 2.54 mm; Supplier 1: Mouser; Supplier Part Number 1: 769-AQY216EH; Supplier 2: Digi-Key; Supplier Part Number 2: AQY216EH-ND; Packing: Tube; RoHS: True; Series: PhotoMOS GE 1 Form A; Mounting Technology: Through Hole; ComponentLink1Description: Manufacturer URL; ComponentLink1URL: http://www3.panasonic.biz/ac/ae/index.jsp; ComponentLink2Description: Datasheet; ComponentLink2URL: http://www3.panasonic.biz/ac/e_download/control/relay/photomos/catalog/semi_eng_ge1a_aqy21_e.pdf; ComponentLink3Description: Package Specification; ComponentLink3URL: http://www3.panasonic.biz/ac/e_download/control/relay/photomos/catalog/semi_eng_dimensions.pdf?f_cd=401560
footprint PNSC-DIP4_V (DIP, 4-Leads, Body 6.45x4.83mm, Pitch2.54 mm)
pins: 1, 2, 3, 4

## AQY216EHA
designator K?
PhotoMOS GE 1 Form A, 600 V Load Voltage, 0.05 A Continuous Load Current, -40 to 85 degC, 4-Pin DIP(SMT), Tube, RoHS; Manufacturer: Panasonic; PartNumber: AQY216EHA; Continuous Load Current: 0.05 A; Load Voltage: 600 V; On Resistance (Typ): 52 Ohm; Pb-Free: True; DatasheetVersion: 201404-T; PackageVersion: ASCTB67E, 04/2014; PackageReference: DIP4(SMT); PackageDescription: 4-Pin Surface Mount Terminal Package, Body 4.78 x 6.4 mm, Pitch 2.54mm; Supplier 1: Mouser; Supplier Part Number 1: 769-AQY216EHA; Supplier 2: Digi-Key; Supplier Part Number 2: AQY216EHA-ND; Packing: Tube; RoHS: True; Series: PhotoMOS GE 1 Form A; Mounting Technology: Surface Mount; ComponentLink1Description: Manufacturer URL; ComponentLink1URL: http://www3.panasonic.biz/ac/ae/index.jsp; ComponentLink2Description: Datasheet; ComponentLink2URL: http://www3.panasonic.biz/ac/e_download/control/relay/photomos/catalog/semi_eng_ge1a_aqy21_e.pdf; ComponentLink3Description: Package Specification; ComponentLink3URL: http://www3.panasonic.biz/ac/e_download/control/relay/photomos/catalog/semi_eng_dimensions.pdf?f_cd=401560
footprint PNSC-DIP4(SMT)_V (DIP(SMT), 4-Leads, Body 6.4x4.78mm, Pitch 2.54mm)
pins: 1, 2, 3, 4

## AQY221N2M
designator K?
PhotoMOS RF SON 1 Form A CxR10, 40 V Load Voltage, 0.12 A Continuous Load Current, -40 to 85 degC, 4-Pin SON, Tape and Reel, RoHS; Manufacturer: Panasonic; PartNumber: AQY221N2M; Continuous Load Current: 0.12 A; Load Voltage: 40 V; On Resistance (Typ): 9.5 Ohm; Pb-Free: True; DatasheetVersion: 201404-T; PackageVersion: ASCTB67E, 04/2014; PackageReference: SON; PackageDescription: 4-Pin Small Outline Non-leaded Package, Body 2.2 x 2.95 mm, Pitch 1.27 mm; Supplier 1: Mouser; Supplier Part Number 1: 769-AQY221N2M; Packing: Tape and Reel; RoHS: True; Series: PhotoMOS RF SON 1 Form A CxR10; Mounting Technology: Surface Mount; ComponentLink1Description: Manufacturer URL; ComponentLink1URL: http://www3.panasonic.biz/ac/ae/index.jsp; ComponentLink2Description: Datasheet; ComponentLink2URL: http://www3.panasonic.biz/ac/e_download/control/relay/photomos/catalog/semi_eng_rf1a_aqy22_m_cr10.pdf?f_cd=301442; ComponentLink3Description: Package Specification; ComponentLink3URL: http://www3.panasonic.biz/ac/e_download/control/relay/photomos/catalog/semi_eng_dimensions.pdf?f_cd=401560
footprint PNSC-SON_V (SON, 4-Pin, Body 2.2x2.95mm, Pitch 1.27mm)
pins: 1, 2, 3, 4

## AQY221N2S
designator K?
PhotoMOS RF SOP 1 Form A CxR10, 40 V Load Voltage, 0.12 A Continuous Load Current, -40 to 85 degC, 4-Pin SOP, Tube, RoHS; Manufacturer: Panasonic; PartNumber: AQY221N2S; Continuous Load Current: 0.12 A; Load Voltage: 40 V; On Resistance (Typ): 9.5 Ohm; Pb-Free: True; DatasheetVersion: 201404-T; PackageVersion: ASCTB67E, 04/2014; PackageReference: SOP4; PackageDescription: 4-Pin Small Outline Package, Body 4.4 x 4.3 mm, Pitch 2.54 mm; Supplier 1: Mouser; Supplier Part Number 1: 769-AQY221N2S; Supplier 2: Digi-Key; Supplier Part Number 2: 255-1793-5-ND; Packing: Tube; RoHS: True; Series: PhotoMOS RF SOP 1 Form A CxR10; Mounting Technology: Surface Mount; ComponentLink1Description: Manufacturer URL; ComponentLink1URL: http://www3.panasonic.biz/ac/ae/index.jsp; ComponentLink2Description: Datasheet; ComponentLink2URL: http://www3.panasonic.biz/ac/e_download/control/relay/photomos/catalog/semi_eng_rf1a_aqy22_s_cr10.pdf?f_cd=301472; ComponentLink3Description: Package Specification; ComponentLink3URL: http://www3.panasonic.biz/ac/e_download/control/relay/photomos/catalog/semi_eng_dimensions.pdf?f_cd=401560
footprint PNSC-SOP4_V (SOP, 4-Leads, Body 4.4x4.3mm, Pitch 2.54mm)
pins: 1, 2, 3, 4

## AQY221N2V
designator K?
PhotoMOS RF SSOP 1 Form A CxR10, 40 V Load Voltage, 0.12 A Continuous Load Current, -40 to 85 degC, 4-Pin SSOP, Tape and Reel, RoHS; Manufacturer: Panasonic; PartNumber: AQY221N2V; Continuous Load Current: 0.12 A; Load Voltage: 40 V; On Resistance (Typ): 9.5 Ohm; Pb-Free: True; DatasheetVersion: 201404-T; PackageVersion: ASCTB67E, 2014/04; PackageReference: SSOP4; PackageDescription: 4-Pin Shrink Small Outline Package, Body 4.45 x 2.65 mm, Pitch 1.27 mm; Supplier 1: Mouser; Supplier Part Number 1: 769-AQY221N2V; Supplier 2: Digi-Key; Supplier Part Number 2: 255-1794-5-ND; Packing: Tape and Reel; RoHS: True; Series: PhotoMOS RF SSOP 1 Form A CxR10; Mounting Technology: Surface Mount; ComponentLink1Description: Manufacturer URL; ComponentLink1URL: http://www3.panasonic.biz/ac/ae/index.jsp; ComponentLink2Description: Datasheet; ComponentLink2URL: http://www3.panasonic.biz/ac/e_download/control/relay/photomos/catalog/semi_eng_rf1a_aqy22_v_cr10.pdf?f_cd=301502; ComponentLink3Description: Package Specification; ComponentLink3URL: http://www3.panasonic.biz/ac/e_download/control/relay/photomos/catalog/semi_eng_dimensions.pdf?f_cd=401560
footprint PNSC-SSOP4_V (SSOP, 4-Leads, Body 4.45x2.65mm, Pitch 1.27mm)
pins: 1, 2, 3, 4

## AQY221N3M
designator K?
PhotoMOS RF SON 1 Form A CxR5, 25 V Load Voltage, 0.15 A Continuous Load Current, -40 to 85 degC, 4-Pin SON, Tape and Reel, RoHS; Manufacturer: Panasonic; PartNumber: AQY221N3M; Continuous Load Current: 0.15 A; Load Voltage: 25 V; On Resistance (Typ): 5.5 Ohm; Pb-Free: True; DatasheetVersion: 201404-T; PackageVersion: ASCTB67E, 04/2014; PackageReference: SON; PackageDescription: 4-Pin Small Outline Non-leaded Package, Body 2.2 x 2.95 mm, Pitch 1.27 mm; Supplier 1: Mouser; Supplier Part Number 1: 769-AQY221N3M; Supplier 2: Digi-Key; Supplier Part Number 2: 255-2389-ND; Packing: Tape and Reel; RoHS: True; Series: PhotoMOS RF SON 1 Form A CxR5; Mounting Technology: Surface Mount; ComponentLink1Description: Manufacturer URL; ComponentLink1URL: http://www3.panasonic.biz/ac/ae/index.jsp; ComponentLink2Description: Datasheet; ComponentLink2URL: http://www3.panasonic.biz/ac/e_download/control/relay/photomos/catalog/semi_eng_rf1a_aqy22_m_cr10.pdf?f_cd=301442; ComponentLink3Description: Package Specification; ComponentLink3URL: http://www3.panasonic.biz/ac/e_download/control/relay/photomos/catalog/semi_eng_dimensions.pdf?f_cd=401560
footprint PNSC-SON_V (SON, 4-Pin, Body 2.2x2.95mm, Pitch 1.27mm)
pins: 1, 2, 3, 4

## AQY221N3V
designator K?
PhotoMOS RF SSOP 1 Form A CxR5, 25 V Load Voltage, 0.15 A Continuous Load Current, -40 to 85 degC, 4-Pin SSOP, Tape and Reel, RoHS; Manufacturer: Panasonic; PartNumber: AQY221N3V; Continuous Load Current: 0.15 A; Load Voltage: 25 V; On Resistance (Typ): 5.5 Ohm; Pb-Free: True; DatasheetVersion: 201404-T; PackageVersion: ASCTB67E, 2014/04; PackageReference: SSOP4; PackageDescription: 4-Pin Shrink Small Outline Package, Body 4.45 x 2.65 mm, Pitch 1.27 mm; Supplier 1: Mouser; Supplier Part Number 1: 769-AQY221N3V; Supplier 2: Digi-Key; Supplier Part Number 2: 255-1982-ND; Packing: Tape and Reel; RoHS: True; Series: PhotoMOS RF SSOP 1 Form A CxR5; Mounting Technology: Surface Mount; ComponentLink1Description: Manufacturer URL; ComponentLink1URL: http://www3.panasonic.biz/ac/ae/index.jsp; ComponentLink2Description: Datasheet; ComponentLink2URL: http://www3.panasonic.biz/ac/e_download/control/relay/photomos/catalog/semi_eng_rf1a_aqy22_v_cr10.pdf?f_cd=301502; ComponentLink3Description: Package Specification; ComponentLink3URL: http://www3.panasonic.biz/ac/e_download/control/relay/photomos/catalog/semi_eng_dimensions.pdf?f_cd=401560
footprint PNSC-SSOP4_V (SSOP, 4-Leads, Body 4.45x2.65mm, Pitch 1.27mm)
pins: 1, 2, 3, 4

## AQY221R2M
designator K?
PhotoMOS RF SON 1 Form A CxR10, 40 V Load Voltage, 0.25 A Continuous Load Current, -40 to 85 degC, 4-Pin SON, Tape and Reel, RoHS; Manufacturer: Panasonic; PartNumber: AQY221R2M; Continuous Load Current: 0.25 A; Load Voltage: 40 V; On Resistance (Typ): 0.8 Ohm; Pb-Free: True; DatasheetVersion: 201404-T; PackageVersion: ASCTB67E, 04/2014; PackageReference: SON; PackageDescription: 4-Pin Small Outline Non-leaded Package, Body 2.2 x 2.95 mm, Pitch 1.27 mm; Supplier 1: Mouser; Supplier Part Number 1: 769-AQY221R2M; Packing: Tape and Reel; RoHS: True; Series: PhotoMOS RF SON 1 Form A CxR10; Mounting Technology: Surface Mount; ComponentLink1Description: Manufacturer URL; ComponentLink1URL: http://www3.panasonic.biz/ac/ae/index.jsp; ComponentLink2Description: Datasheet; ComponentLink2URL: http://www3.panasonic.biz/ac/e_download/control/relay/photomos/catalog/semi_eng_rf1a_aqy22_m_cr10.pdf?f_cd=301442; ComponentLink3Description: Package Specification; ComponentLink3URL: http://www3.panasonic.biz/ac/e_download/control/relay/photomos/catalog/semi_eng_dimensions.pdf?f_cd=401560
footprint PNSC-SON_V (SON, 4-Pin, Body 2.2x2.95mm, Pitch 1.27mm)
pins: 1, 2, 3, 4

## AQY221R2S
designator K?
PhotoMOS RF SOP 1 Form A CxR10, 40 V Load Voltage, 0.25 A Continuous Load Current, -40 to 85 degC, 4-Pin SOP, Tube, RoHS; Manufacturer: Panasonic; PartNumber: AQY221R2S; Continuous Load Current: 0.25 A; Load Voltage: 40 V; On Resistance (Typ): 0.8 Ohm; Pb-Free: True; DatasheetVersion: 201404-T; PackageVersion: ASCTB67E, 04/2014; PackageReference: SOP4; PackageDescription: 4-Pin Small Outline Package, Body 4.4 x 4.3 mm, Pitch 2.54 mm; Supplier 1: Mouser; Supplier Part Number 1: 769-AQY221R2S; Supplier 2: Digi-Key; Supplier Part Number 2: 255-2150-5-ND; Packing: Tube; RoHS: True; Series: PhotoMOS RF SOP 1 Form A CxR10; Mounting Technology: Surface Mount; ComponentLink1Description: Manufacturer URL; ComponentLink1URL: http://www3.panasonic.biz/ac/ae/index.jsp; ComponentLink2Description: Datasheet; ComponentLink2URL: http://www3.panasonic.biz/ac/e_download/control/relay/photomos/catalog/semi_eng_rf1a_aqy22_s_cr10.pdf?f_cd=301472; ComponentLink3Description: Package Specification; ComponentLink3URL: http://www3.panasonic.biz/ac/e_download/control/relay/photomos/catalog/semi_eng_dimensions.pdf?f_cd=401560
footprint PNSC-SOP4_V (SOP, 4-Leads, Body 4.4x4.3mm, Pitch 2.54mm)
pins: 1 DC+, 2 DC-, 3 AC/DC, 4 AC/DC

## AQY221R2T
designator K?
PhotoMOS RF VSSOP 1 Form A CxR10, 40 V Load Voltage, 0.25 A Continuous Load Current, -40 to 85 degC, 4-Pin VSSOP, Tape and Reel, RoHS; Manufacturer: Panasonic; PartNumber: AQY221R2T; Continuous Load Current: 0.25 A; Load Voltage: 40 V; On Resistance (Typ): 0.8 Ohm; Pb-Free: True; DatasheetVersion: 201404-T; PackageVersion: ASCTB67E, 04/2014; PackageReference: VSSOP; PackageDescription: 4-Pin Small Outline Package, Body 2.1x 1.8 mm, Pitch 1.27 mm; Supplier 1: Mouser; Supplier Part Number 1: N/A; Supplier 2: Mouser; Supplier Part Number 2: N/A; Supplier 3: Mouser; Supplier Part Number 3: N/A; Supplier 4: Mouser; Supplier Part Number 4: N/A; Supplier 5: Mouser; Supplier Part Number 5: N/A; Supplier 6: Mouser; Supplier Part Number 6: N/A; Supplier 7: Digi-Key; Supplier Part Number 7: AQY221R2T-ND; Packing: Tape and Reel; RoHS: True; Series: PhotoMOS RF VSSOP 1 Form A CxR10; Mounting Technology: Surface Mount; ComponentLink1Description: Manufacturer URL; ComponentLink1URL: http://www3.panasonic.biz/ac/ae/index.jsp; ComponentLink2Description: Datasheet; ComponentLink2URL: http://www3.panasonic.biz/ac/e_download/control/relay/photomos/catalog/semi_eng_rf1a_aqy22_t_cr10.pdf?f_cd=301482; ComponentLink3Description: Package Specification; ComponentLink3URL: http://www3.panasonic.biz/ac/e_download/control/relay/photomos/catalog/semi_eng_dimensions.pdf?f_cd=401560
footprint PNSC-VSSOP_V (VSSOP, 4-Leads, Body 2.1x1.8mm, Pitch 1.27mm)
pins: 1 +, 2 -, 3, 4

## AQY221R2V
designator K?
PhotoMOS RF SSOP 1 Form A CxR10, 40 V Load Voltage, 0.25 A Continuous Load Current, -40 to 85 degC, 4-Pin SSOP, Tape and Reel, RoHS; Manufacturer: Panasonic; PartNumber: AQY221R2V; Continuous Load Current: 0.25 A; Load Voltage: 40 V; On Resistance (Typ): 0.75 Ohm; Pb-Free: True; DatasheetVersion: 201404-T; PackageVersion: ASCTB67E, 2014/04; PackageReference: SSOP4; PackageDescription: 4-Pin Shrink Small Outline Package, Body 4.45 x 2.65 mm, Pitch 1.27 mm; Supplier 1: Mouser; Supplier Part Number 1: 769-AQY221R2V; Supplier 2: Digi-Key; Supplier Part Number 2: 255-2884-3-ND; Packing: Tape and Reel; RoHS: True; Series: PhotoMOS RF SSOP 1 Form A CxR10; Mounting Technology: Surface Mount; ComponentLink1Description: Manufacturer URL; ComponentLink1URL: http://www3.panasonic.biz/ac/ae/index.jsp; ComponentLink2Description: Datasheet; ComponentLink2URL: http://www3.panasonic.biz/ac/e_download/control/relay/photomos/catalog/semi_eng_rf1a_aqy22_v_cr10.pdf?f_cd=301502; ComponentLink3Description: Package Specification; ComponentLink3URL: http://www3.panasonic.biz/ac/e_download/control/relay/photomos/catalog/semi_eng_dimensions.pdf?f_cd=401560
footprint PNSC-SSOP4_V (SSOP, 4-Leads, Body 4.45x2.65mm, Pitch 1.27mm)
pins: 1, 2, 3, 4

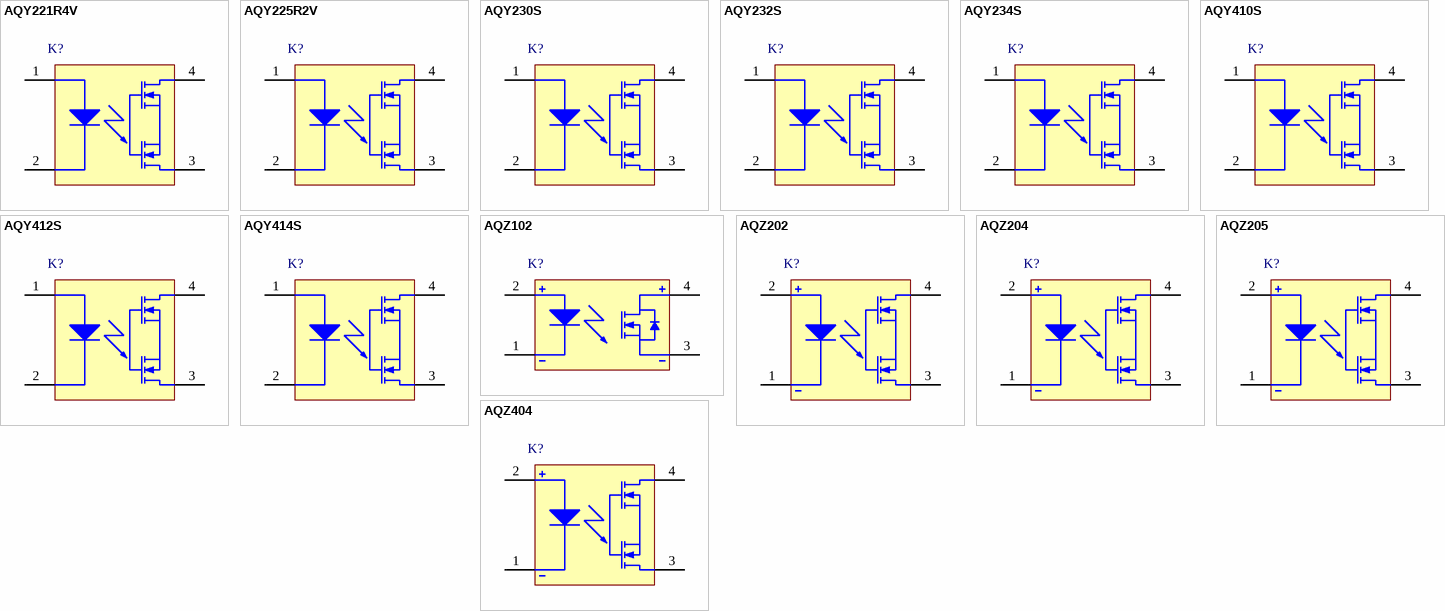
[diagram p1: symbols AQY221R4V to AQZ404]

## AQY221R4V
designator K?
PhotoMOS RF SSOP 1 Form A CxR10, 40 V Load Voltage, 0.5 A Continuous Load Current, -40 to 85 degC, 4-Pin SSOP, Tape and Reel, RoHS; Manufacturer: Panasonic; PartNumber: AQY221R4V; Continuous Load Current: 0.5 A; Load Voltage: 40 V; On Resistance (Typ): 0.55 Ohm; Pb-Free: True; DatasheetVersion: 201404-T; PackageVersion: ASCTB67E, 2014/04; PackageReference: SSOP4; PackageDescription: 4-Pin Shrink Small Outline Package, Body 4.45 x 2.65 mm, Pitch 1.27 mm; Supplier 1: Mouser; Supplier Part Number 1: 769-AQY221R4V; Packing: Tape and Reel; RoHS: True; Series: PhotoMOS RF SSOP 1 Form A CxR10; Mounting Technology: Surface Mount; ComponentLink1Description: Manufacturer URL; ComponentLink1URL: http://www3.panasonic.biz/ac/ae/index.jsp; ComponentLink2Description: Datasheet; ComponentLink2URL: http://www3.panasonic.biz/ac/e_download/control/relay/photomos/catalog/semi_eng_rf1a_aqy22_v_cr10.pdf?f_cd=301502; ComponentLink3Description: Package Specification; ComponentLink3URL: http://www3.panasonic.biz/ac/e_download/control/relay/photomos/catalog/semi_eng_dimensions.pdf?f_cd=401560
footprint PNSC-SSOP4_V (SSOP, 4-Leads, Body 4.45x2.65mm, Pitch 1.27mm)
pins: 1 DC+, 2 DC-, 3 AC/DC, 4 AC/DC

## AQY225R2V
designator K?
PhotoMOS RF SSOP 1 Form A CxR, 80 V Load Voltage, 0.12 A Continuous Load Current, -40 to 85 degC, 4-Pin SSOP, Tape and Reel, RoHS; Manufacturer: Panasonic; PartNumber: AQY225R2V; Continuous Load Current: 0.12 A; Load Voltage: 80 V; On Resistance (Typ): 10.5 Ohm; Pb-Free: True; DatasheetVersion: 201403-T; PackageVersion: ASCTB67E, 2014/04; PackageReference: SSOP4; PackageDescription: 4-Pin Shrink Small Outline Package, Body 4.45 x 2.65 mm, Pitch 1.27 mm; Supplier 1: Mouser; Supplier Part Number 1: 769-AQY225R2V; Supplier 2: Digi-Key; Supplier Part Number 2: 255-2689-ND; Packing: Tape and Reel; RoHS: True; Series: PhotoMOS RF SSOP 1 Form A CxR; Mounting Technology: Surface Mount; ComponentLink1Description: Manufacturer URL; ComponentLink1URL: http://www3.panasonic.biz/ac/ae/index.jsp; ComponentLink2Description: Datasheet; ComponentLink2URL: http://www3.panasonic.biz/ac/e_download/control/relay/photomos/catalog/semi_eng_rf1a_aqy22_v_cr.pdf?f_cd=301492; ComponentLink3Description: Package Specification; ComponentLink3URL: http://www3.panasonic.biz/ac/e_download/control/relay/photomos/catalog/semi_eng_dimensions.pdf?f_cd=401560
footprint PNSC-SSOP4_V (SSOP, 4-Leads, Body 4.45x2.65mm, Pitch 1.27mm)
pins: 1, 2, 3, 4

## AQY230S
designator K?
PhotoMOS HE SOP 1 Form A, 350 V Load Voltage, 0.12 A Continuous Load Current, -40 to 85 degC, 4-Pin SOP, Tube, RoHS; Manufacturer: Panasonic; PartNumber: AQY230S; Continuous Load Current: 0.12 A; Load Voltage: 350 V; On Resistance (Typ): 19 Ohm; Pb-Free: True; DatasheetVersion: 201404-T; PackageVersion: ASCTB67E, 04/2014; PackageReference: SOP4; PackageDescription: 4-Pin Small Outline Package, Body 4.4 x 4.3 mm, Pitch 2.54 mm; Supplier 1: Mouser; Supplier Part Number 1: 769-AQY230S; Supplier 2: Digi-Key; Supplier Part Number 2: 255-4246-5-ND; Packing: Tube; RoHS: True; Series: PhotoMOS HE SOP 1 Form A; Mounting Technology: Surface Mount; ComponentLink1Description: Manufacturer URL; ComponentLink1URL: http://www3.panasonic.biz/ac/ae/index.jsp; ComponentLink2Description: Datasheet; ComponentLink2URL: http://www3.panasonic.biz/ac/e_download/control/relay/photomos/catalog/semi_eng_hs1a_aqy23_s.pdf?f_cd=301342; ComponentLink3Description: Package Specification; ComponentLink3URL: http://www3.panasonic.biz/ac/e_download/control/relay/photomos/catalog/semi_eng_dimensions.pdf?f_cd=401560
footprint PNSC-SOP4_V (SOP, 4-Leads, Body 4.4x4.3mm, Pitch 2.54mm)
pins: 1, 2, 3, 4